# Altium schematic symbol library mechParts.SchLib: 7 symbols
Pins are listed as number, name and electrical type; pins without a type are passive.

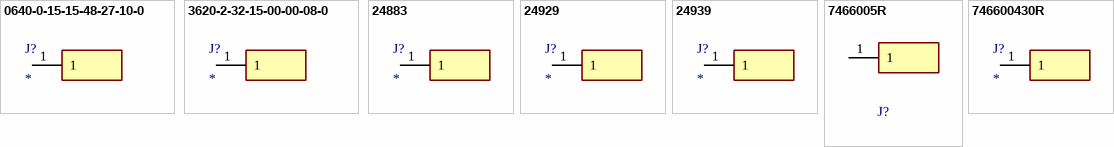
[diagram p0: symbols 0640-0-15-15-48-27-10-0 to 746600430R]

## 0640-0-15-15-48-27-10-0
designator J?
RECEPTACLE FOR 3620; Manufacturer_Name: Mill-Max; Manufacturer_Part_Number: 0640-0-15-15-48-27-10-0; Datasheet Link: https://www.mill-max.com/products/datasheet/recpin/0640-0-15-15-48-27-10-0; Mouser Part Number: 575-0640015154827100; Mouser Price/Stock: https://www.mouser.co.uk/ProductDetail/Mill-Max/0640-0-15-15-48-27-10-0?qs=PzGy0jfpSMuT%252Bp0XzJfPWQ%3D%3D; Arrow Part Number: 0640-0-15-15-48-27-10-0; Arrow Price/Stock: https://www.arrow.com/en/products/0640-0-15-15-48-27-10-0/mill-max?utm_currency=USD&region=nac
footprint 0640015154827100
pins: 1

## 3620-2-32-15-00-00-08-0
designator J?
CONN PC PIN CIRC 0.040DIA GOLD; Manufacturer_Name: Mill-Max; Manufacturer_Part_Number: 3620-2-32-15-00-00-08-0; Datasheet Link: https://www.mouser.com/datasheet/2/273/219M-269419.pdf; Height: 3.96mm; Mouser Part Number: 575-3620232150000; Mouser Price/Stock: https://www.mouser.co.uk/ProductDetail/Mill-Max/3620-2-32-15-00-00-08-0?qs=1wcGhl1mtLOgyth2QbSP9Q%3D%3D; Arrow Part Number: 3620-2-32-15-00-00-08-0; Arrow Price/Stock: https://www.arrow.com/en/products/3620-2-32-15-00-00-08-0/mill-max?utm_currency=USD&region=nac
footprint 3620232150000080
pins: 1

## 24883
designator J?
SM STANDOFF 4MM; Manufacturer_Name: Keystone Electronics; Manufacturer_Part_Number: 24883; Datasheet Link: https://www.keyelco.com/product-pdf.cfm?p=14492; Height: 8.13mm; Mouser Part Number: 534-24883; Mouser Price/Stock: https://www.mouser.co.uk/ProductDetail/Keystone-Electronics/24885?qs=u16ybLDytRauJq9rQZt4xg%3D%3D
footprint 24883
pins: 1

## 24929
designator J?
M2.5 ZERO HEIGHT THREADED INSERT; Manufacturer_Name: Keystone Electronics; Manufacturer_Part_Number: 24929; Datasheet Link: https://www.mouser.com/datasheet/2/215/24929-2934532.pdf; Height: 0.3mm; Mouser Part Number: 534-24929; Mouser Price/Stock: https://www.mouser.co.uk/ProductDetail/Keystone-Electronics/24929?qs=Znm5pLBrcAJPd1Bwfdw1vA%3D%3D
footprint 24929
pins: 1

## 24939
designator J?
M3 ZERO HEIGHT THREADED INSERT; Manufacturer_Name: Keystone Electronics; Manufacturer_Part_Number: 24939; Height: 0.3mm; Mouser Part Number: 534-24939; Mouser Price/Stock: https://www.mouser.co.uk/ProductDetail/Keystone-Electronics/24939?qs=Znm5pLBrcAIvhBQ75Y3W5A%3D%3D
footprint 24939
pins: 1

## 7466005R
designator J?  (value not drawn)
TERM REDCUBE M5 SMD; Manufacturer Part Number: 7466005R; Manufacturer: Wurth Elektronik; Match Code: WP-SMBU; Outer Diameter: 9mm; Rated Current: 70A; Surface: Tin; Thread Length: 6mm; ComponentLink1Description: Website Link; ComponentLink1URL: https://www.we-online.com/redexpert/article/7466005R?ad; ComponentLink2Description: Datasheet Link; ComponentLink2URL: https://www.we-online.com/redexpert/spec/7466005R?ad; Category: REDCUBE SMT; Mount: SMT; Operating Temperature Max: 150°C; Operating Temperature Min: -55°C; Packaging: Tape and Reel; Height: 5mm; Diameter: 9mm; Material: Brass; Thread Size: M5
footprint 7466005R (SMD with internal through-hole thread, M5-6mm)
pins: 1

## 746600430R
designator J?
TERM REDCUBE M4 SMD; Manufacturer_Name: Wurth Elektronik; Manufacturer_Part_Number: 746600430R; Datasheet Link: http://uk.rs-online.com/web/p/products/1769998; Height: 4mm; Mouser Part Number: 710-746600430R; Mouser Price/Stock: https://www.mouser.co.uk/ProductDetail/Wurth-Elektronik/746600430R?qs=lBTPRtX1sU9kA8hYvUSsfw%3D%3D
footprint 746600430R (SMD with internal through-hole thread, M4-4mm)
pins: 1